# Altium footprint library 61304011121-8.PcbLib: 1 footprints
Each footprint in its own frame and in the unit in brackets; x right, y up, seen from the top. Pads: shape width x height; smd on the part's side, far side on the other; paste and mask are expansions set on the pad; w line width, h text height; cw(c..) or ccw(c..) is an arc to the next point about the centre after c.
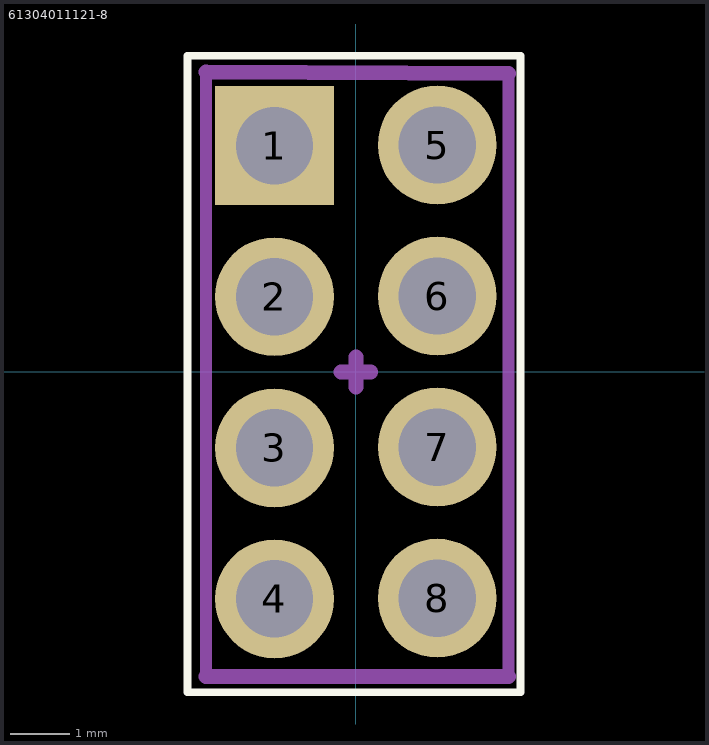
[diagram p0: the footprint, top view; thin cyan lines are the x and y axes]

## 61304011121-8 [mm]
pads (8):
  rect 2x2 hole 1.3: 1(-1.368,3.804)
  round 2 hole 1.3: 2(-1.368,1.264) 3(-1.368,-1.276) 4(-1.368,-3.816) 5(1.368,3.816) 6(1.368,1.276) 7(1.368,-1.264) 8(1.368,-3.804)
Top Overlay:
  lines w0.127: -2.832,-5.384 2.768,-5.384 2.768,5.316 -2.832,5.316 -2.832,-5.384
Top Designator:
  text ".Designator" at -7.649,-0.542 h1.52
3D Body:
  lines w0.2: -2.518,-5.119 -2.518,5.044 ; 2.568,-5.119 2.568,5.016
  lines w0.25: -2.518,-5.119 2.568,-5.119 ; -2.518,5.044 2.568,5.016
Center Cross:
  lines w0.25: -0.25,0 0,0 ; 0,-0.25 0,0 ; 0,0.25 0,0 ; 0.25,0 0,0
3D body "61304011121-4.stp": height 8.54, standoff -3, extent -2.601,-5.164 -0.061,4.996
3D body "61304011121-4.stp": height 8.54, standoff -3, extent 0.068,-5.164 2.608,4.996